# EAGLE library part AAT3693IDH (library skyworks)
1.6A LINEAR LI-ION CHARGER
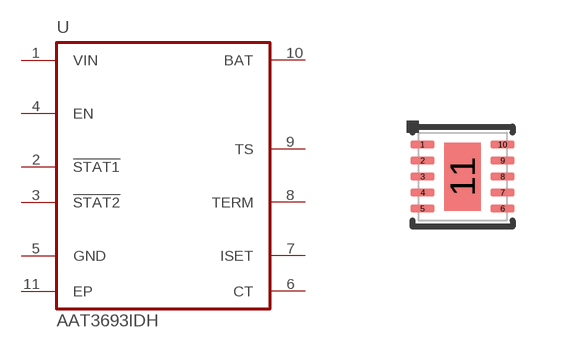
[diagram p4: symbol with the pads of WFDFN10; footprint WFDFN10]

Designator prefix U

## AAT3693IDH  [WFDFN10]
1  VIN  in
2  !STAT1!  oc
3  !STAT2!  oc
4  EN
5  GND  in
6  CT  in
7  ISET  in
8  TERM  pas
9  TS  in
10  BAT  pas
11  EP  in

## Footprint WFDFN10 (pad centres in mm)
10-WFDFN Exposed Pad
smd 0.6 x 0.19: 1 -1,0.8; 2 -1,0.4; 3 -1,0; 4 -1,-0.4; 5 -1,-0.8; 6 1,-0.8; 7 1,-0.4; 8 1,0; 9 1,0.4; 10 1,0.8
smd 0.9 x 1.7: 11 0,0